# Altium integrated library MT47H64M16HR_25_H.IntLib: 1 symbol
Pins are listed as number, name and electrical type; pins without a type are passive.

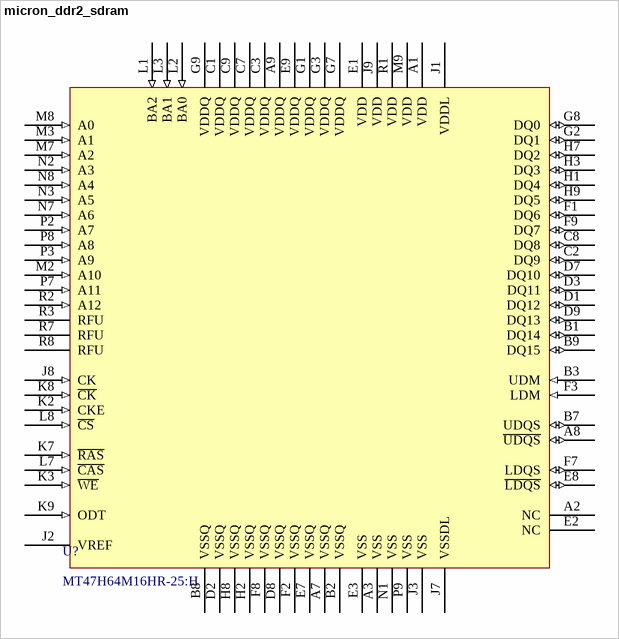
[diagram p0: symbol micron_ddr2_sdram]

## micron_ddr2_sdram
designator U?, comment MT47H64M16HR-25:H
DDR2 SDRAM with configuration of 64 Meg * 16 bits.; Designer: Faheem Minhas; Company: PhasePhotonics; 3D model: 3D contenental; PCB model: snapEDA; PCB package type: FBGA; Date Created: 18-Janruary-2019; Data Sheet URL: static6.arrow.com/aropdfconversion/e8a5cdd149c7439f33fcdfacad6c2c34fc62263c/mt47h64m16hr-25it.pdf; Byer URL: https://www.arrow.com/en/products/mt47h64m16hr-25h/micron-technology; Last Modified: 31/01/2019
footprint BGA84CP80_15X9_1250X900X120B45N
pins: A1 VDD (power) "Power supply 1.8V +- 0.1 V.", A2 NC (oe) "Unconnected.", A3 VSS (power) "Ground.", A7 VSSQ (power) "DQ ground isolated on device.", A8 ~{UDQS} (io) "Differential data mode strobe for upper bits DQ[15:8].", A9 VDDQ (power) "DQ Power supply 1.8V tolerance 0.1V.", B1 DQ14 (io) "Bidirectional data.", B2 VSSQ (power) "DQ ground isolated on device.", B3 UDM (in) "Input data mask fgor upper bits DQ[15:8].", B7 UDQS (io) "Data strobe for upper bits DQ[15:8].", B8 VSSQ (power) "DQ ground isolated on device.", B9 DQ15 (io) "Bidirectional data.", C1 VDDQ (power) "DQ Power supply 1.8V tolerance 0.1V.", C2 DQ9 (io) "Bidirectional data.", C3 VDDQ (power) "DQ Power supply 1.8V tolerance 0.1V.", C7 VDDQ (power) "DQ Power supply 1.8V tolerance 0.1V.", C8 DQ8 (io) "Bidirectional data.", C9 VDDQ (power) "DQ Power supply 1.8V tolerance 0.1V.", D1 DQ12 (io) "Bidirectional data.", D2 VSSQ (power) "DQ ground isolated on device.", D3 DQ11 (io) "Bidirectional data.", D7 DQ10 (io) "Bidirectional data.", D8 VSSQ (power) "DQ ground isolated on device.", D9 DQ13 (io) "Bidirectional data.", E1 VDD (power) "Power supply 1.8V +- 0.1 V.", E2 NC (oe) "Unconnected.", E3 VSS (power) "Ground.", E7 VSSQ (power) "DQ ground isolated on device.", E8 ~{LDQS} (io) "Differential data mode strobe for lower bits DQ[7:0].", E9 VDDQ (power) "DQ Power supply 1.8V tolerance 0.1V.", F1 DQ6 (io) "Bidirectional data.", F2 VSSQ (power) "DQ ground isolated on device.", F3 LDM (in) "Input data mask for lower bits DQ[7:0].", F7 LDQS (io) "Differential data mode strobe for lower bits DQ[7:0].", F8 VSSQ (power) "DQ ground isolated on device.", F9 DQ7 (io) "Bidirectional data.", G1 VDDQ (power) "DQ Power supply 1.8V tolerance 0.1V.", G2 DQ1 (io) "Bidirectional data.", G3 VDDQ (power) "DQ Power supply 1.8V tolerance 0.1V.", G7 VDDQ (power) "DQ Power supply 1.8V tolerance 0.1V.", G8 DQ0 (io) "Bidirectional data.", G9 VDDQ (power) "DQ Power supply 1.8V tolerance 0.1V.", H1 DQ4 (io) "Bidirectional data.", H2 VSSQ (power) "DQ ground isolated on device.", H3 DQ3 (io) "Bidirectional data.", H7 DQ2 (io) "Bidirectional data.", H8 VSSQ (power) "DQ ground isolated on device.", H9 DQ5 (io) "Bidirectional data.", J1 VDDL (power) "DLL Power supply 1.8V tolerance 0.1V.", J2 VREF (power) "SSTL_18 reference supply(VDDQ/2).", J3 VSS (power) "Ground.", J7 VSSDL (power) "DQ ground isolated on device.", J8 CK (in) "Differential clock input(+ve).", J9 VDD (power) "Power supply 1.8V +- 0.1 V.", K2 CKE (in) "Clock enable.", K3 ~{WE} (in) "Define command  being entered.", K7 ~{RAS} (in) "Define command  being entered.", K8 ~{CK} (in) "Differential clock input(-ve).", K9 ODT (in) "On die termination.", L1 BA2 (in) "Bank address select.", L2 BA0 (in) "Bank address select.", L3 BA1 (in) "Bank address select.", L7 ~{CAS} (in) "Define command  being entered.", L8 ~{CS} (in) "Enable command decoder", M2 A10 (in) "Address input.", M3 A1 (in) "Address input.", M7 A2 (in) "Address input.", M8 A0 (in) "Address input.", M9 VDD (power) "Power supply 1.8V +- 0.1 V.", N1 VSS (power) "Ground.", N2 A3 (in) "Address input.", N3 A5 (in) "Address input.", N7 A6 (in) "Address input.", N8 A4 (in) "Address input.", P2 A7 (in) "Address input.", P3 A9 (in) "Address input.", P7 A11 (in) "Address input.", P8 A8 (in) "Address input.", P9 VSS (power) "Ground.", R1 VDD (power) "Power supply 1.8V +- 0.1 V.", R2 A12 (in) "Address input.", R3 RFU (oc) "Reserved for future use.", R7 RFU (oc) "Reserved for future use.", R8 RFU (oc) "Reserved for future use."